# Altium schematic symbol library 通信模块.SchLib: 2 symbols
Pins are listed as number, name and electrical type; pins without a type are passive.

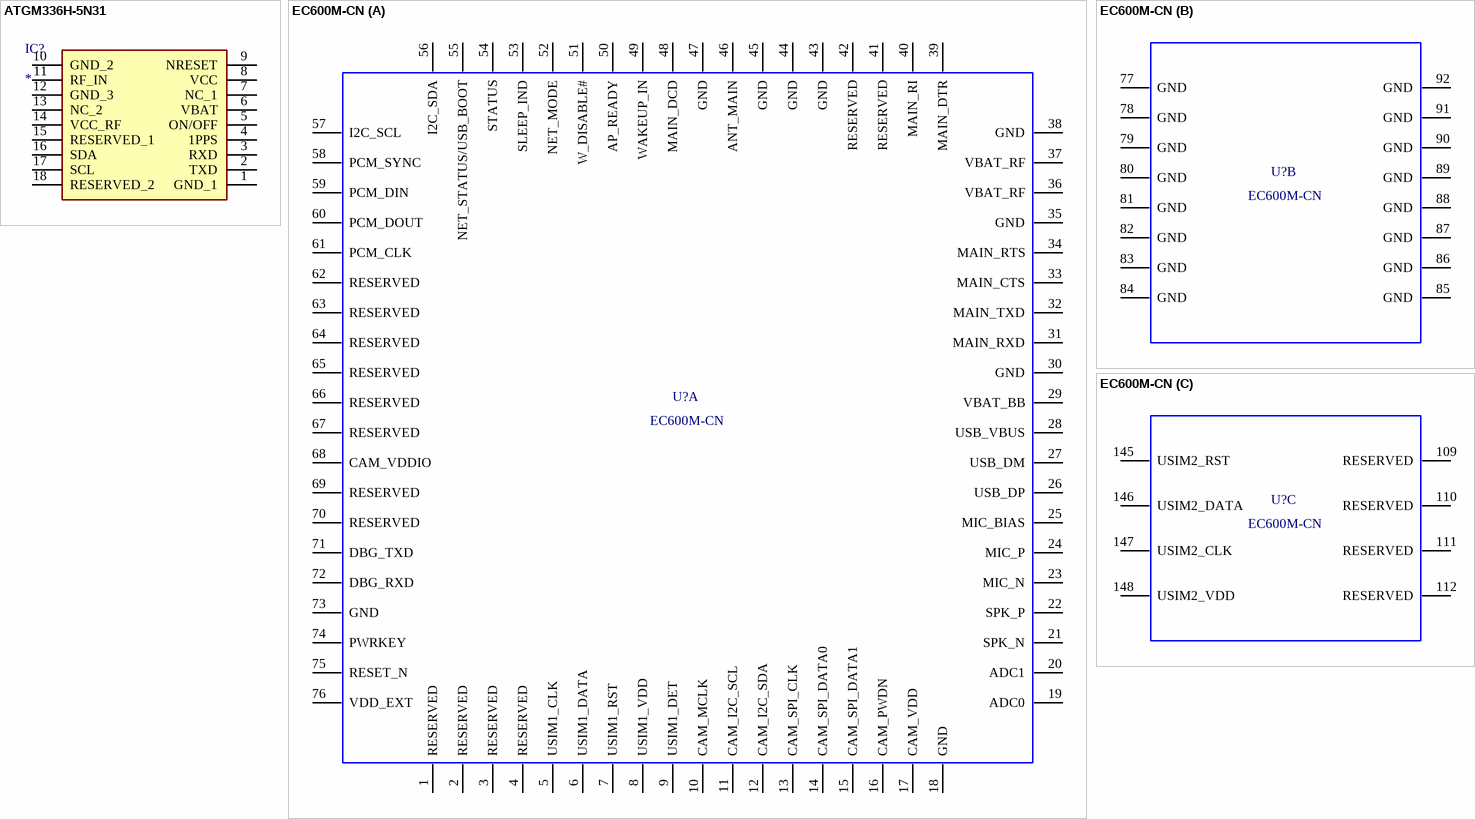
[diagram p0: symbols ATGM336H-5N31 to EC600M-CN]

## ATGM336H-5N31
designator IC?
Integrated Circuit; Manufacturer_Name: ZHONGKEWEI; Manufacturer_Part_Number: ATGM336H-5N31; Description: GSM & GPRS & GPS Modules 9.7X10.1mm RoHS; Datasheet Link: https://datasheet.lcsc.com/szlcsc/ZHONGKEWEI-ATGM336H-5N31_C90770.pdf; Height: 2.6mm
footprint ATGM336H5N31
pins: 1 GND_1, 2 TXD, 3 RXD, 4 1PPS, 5 ON/OFF, 6 VBAT, 7 NC_1, 8 VCC, 9 NRESET, 10 GND_2, 11 RF_IN, 12 GND_3, 13 NC_2, 14 VCC_RF, 15 RESERVED_1, 16 SDA, 17 SCL, 18 RESERVED_2

## EC600M-CN
designator U?
EC600M-CN Module 76LCC 24LGA 21.9×22.9mm H2.4mm RO; Manufacturer: Quectel; Geometry.Height: 2.4mm; Part Description: EC600M-CN Module 76LCC 24LGA 21.9×22.9mm H2.4mm RO; Value: EC600M-CN
footprint EC600M-CN (EC600M-CN Module 76LCC 24LGA 21.9×22.9mm H2.4mm RO)
part A pins: 1 RESERVED, 2 RESERVED, 3 RESERVED, 4 RESERVED, 5 USIM1_CLK, 6 USIM1_DATA, 7 USIM1_RST, 8 USIM1_VDD, 9 USIM1_DET, 10 CAM_MCLK, 11 CAM_I2C_SCL, 12 CAM_I2C_SDA, 13 CAM_SPI_CLK, 14 CAM_SPI_DATA0, 15 CAM_SPI_DATA1, 16 CAM_PWDN, 17 CAM_VDD, 18 GND, 19 ADC0, 20 ADC1, 21 SPK_N, 22 SPK_P, 23 MIC_N, 24 MIC_P, 25 MIC_BIAS, 26 USB_DP, 27 USB_DM, 28 USB_VBUS, 29 VBAT_BB, 30 GND, 31 MAIN_RXD, 32 MAIN_TXD, 33 MAIN_CTS, 34 MAIN_RTS, 35 GND, 36 VBAT_RF, 37 VBAT_RF, 38 GND, 39 MAIN_DTR, 40 MAIN_RI, 41 RESERVED, 42 RESERVED, 43 GND, 44 GND, 45 GND, 46 ANT_MAIN, 47 GND, 48 MAIN_DCD, 49 WAKEUP_IN, 50 AP_READY, 51 W_DISABLE#, 52 NET_MODE, 53 SLEEP_IND, 54 STATUS, 55 NET_STATUS/USB_BOOT, 56 I2C_SDA, 57 I2C_SCL, 58 PCM_SYNC, 59 PCM_DIN, 60 PCM_DOUT, 61 PCM_CLK, 62 RESERVED, 63 RESERVED, 64 RESERVED, 65 RESERVED, 66 RESERVED, 67 RESERVED, 68 CAM_VDDIO, 69 RESERVED, 70 RESERVED, 71 DBG_TXD, 72 DBG_RXD, 73 GND, 74 PWRKEY, 75 RESET_N, 76 VDD_EXT
part B pins: 77 GND, 78 GND, 79 GND, 80 GND, 81 GND, 82 GND, 83 GND, 84 GND, 85 GND, 86 GND, 87 GND, 88 GND, 89 GND, 90 GND, 91 GND, 92 GND
part C pins: 109 RESERVED, 110 RESERVED, 111 RESERVED, 112 RESERVED, 145 USIM2_RST, 146 USIM2_DATA, 147 USIM2_CLK, 148 USIM2_VDD